# Altium footprint library POT_RA2045F-20R-15LC-B10K-C.PcbLib: 1 footprints
Each footprint in its own frame and in the unit in brackets; x right, y up, seen from the top. Pads: shape width x height; smd on the part's side, far side on the other; paste and mask are expansions set on the pad; w line width, h text height; cw(c..) or ccw(c..) is an arc to the next point about the centre after c.
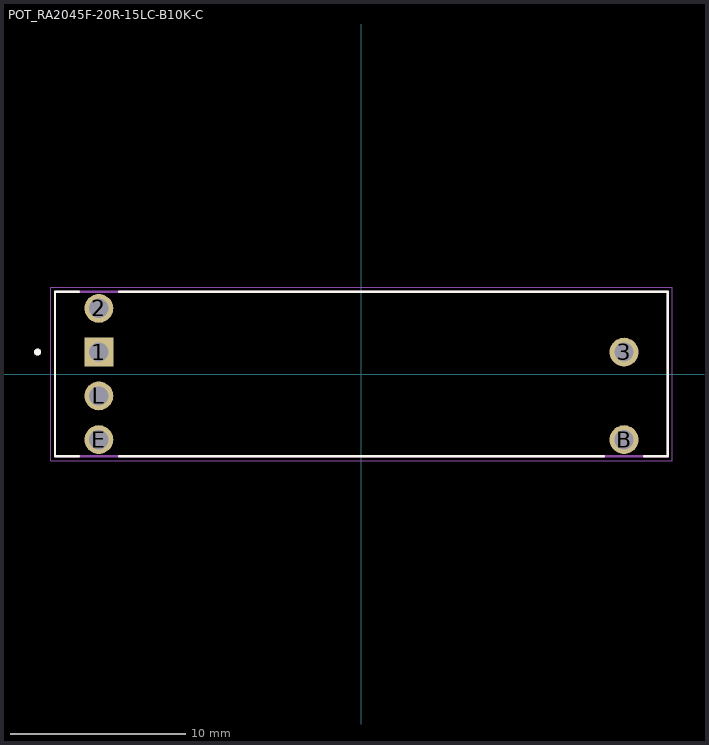
[diagram p0: the footprint, top view; thin cyan lines are the x and y axes]

## POT_RA2045F-20R-15LC-B10K-C [mm]
height 7
pads (6):
  rect 1.65x1.65 / inner round 1.65 / far side rect 1.65x1.65 hole 1.1: 1(-15,1.25)
  round 1.65 hole 1.1: 2(-15,3.75) 3(15,1.25) B(15,-3.75) E(-15,-3.75) L(-15,-1.25)
Top Overlay:
  circle w0.2: c-18.5,1.25 r0.1
  lines w0.127: -16.145,-4.7 -17.5,-4.7 -17.5,4.7 -16.145,4.7 ; -13.855,-4.7 13.855,-4.7 ; -13.855,4.7 17.5,4.7 17.5,-4.7 16.145,-4.7
Mechanical 13:
  circle w0.2: c-18.5,1.25 r0.1
  lines w0.127: -17.5,-4.7 17.5,-4.7 17.5,4.7 -17.5,4.7 -17.5,-4.7
Mechanical 15:
  lines w0.05: -17.75,-4.95 17.75,-4.95 17.75,4.95 -17.75,4.95 -17.75,-4.95
3D body "step_temp.STEP": height 22, standoff -3.5, extent -17.5,-4.7 17.5,4.7